# EAGLE library part 1.27MM_HDR_2X5 (library headers)
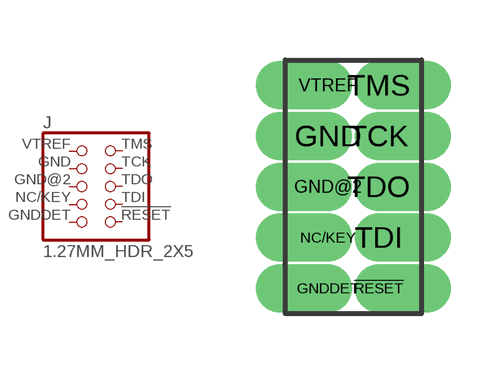
[diagram p0: symbol with the pads of 1.27MM_2X5; footprint 1.27MM_2X5]

Designator prefix J

## 1.27MM_HDR_2X5  [1.27MM_2X5]
!RESET  !RESET  pas
GND  GND  pas
GND@2  GND  pas
GNDDET  GNDDET  pas
NC/KEY  NC/KEY  pas
TCK  TCK  pas
TDI  TDI  pas
TDO  TDO  pas
TMS  TMS  pas
VTREF  VTREF  pas

## Footprint 1.27MM_2X5 (pad centres in mm)
drill 0.7 pad 1.016 offset: !RESET 1.27,-1.905; GND 0,1.905; GND@2 0,0.635; GNDDET 0,-1.905; NC/KEY 0,-0.635; TCK 1.27,1.905; TDI 1.27,-0.635; TDO 1.27,0.635; TMS 1.27,3.175; VTREF 0,3.175